# Altium footprint library SOARFootprints.PcbLib: 56 footprints (part 2 of 4)
Each footprint in its own frame and in the unit in brackets; x right, y up, seen from the top. Pads: shape width x height; smd on the part's side, far side on the other; paste and mask are expansions set on the pad; w line width, h text height; cw(c..) or ccw(c..) is an arc to the next point about the centre after c.
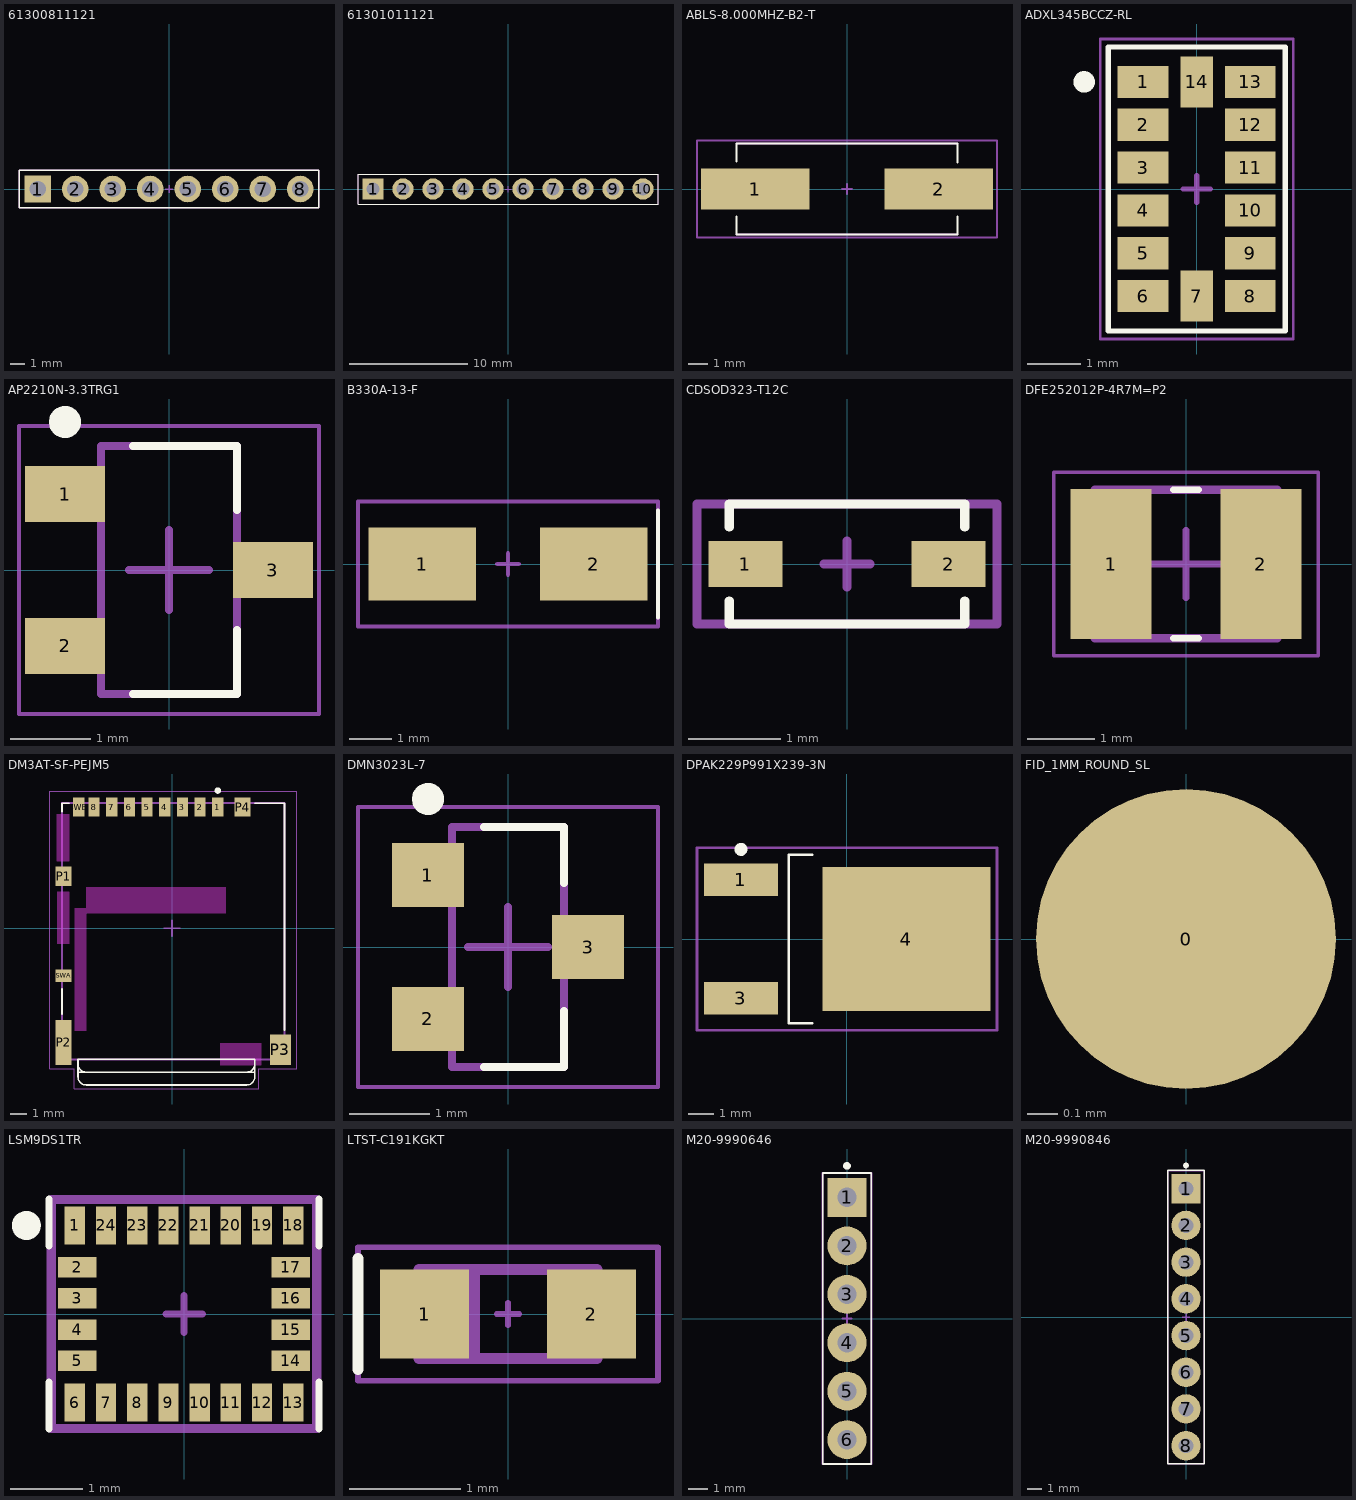
[diagram p1: the footprints below, top view; thin cyan lines are the x and y axes]

## 61300811121 [mm] "CONN HEADER VERT 8POS 2.54MM"
height 11.54
pads (8):
  rect 1.8x1.8 hole 1.1 mask+0.05: 1(-8.89,0)
  round 1.8 hole 1.1 mask+0.05: 2(-6.35,0) 3(-3.81,0) 4(-1.27,0) 5(1.27,0) 6(3.81,0) 7(6.35,0) 8(8.89,0)
Top Overlay:
  lines w0.1: -10.16,-1.27 -10.16,1.27 10.16,1.27 10.16,-1.27 -10.16,-1.27
Top Component Outline:
  lines w0.1: -0.254,0 0.254,0 ; 0,-0.254 0,0.254 ; -10.16,-1.27 -10.16,1.27 10.16,1.27 10.16,-1.27 -10.16,-1.27
3D body "61300811121_Download_STP_61300811121_rev1.stp": height 8.57, standoff -2.97, extent -10.16,-1.27 10.16,1.27

## 61301011121 [mm] "CONN HEADER VERT 10POS 2.54MM"
height 11.54
pads (10):
  rect 1.8x1.8 hole 1.1 mask+0.05: 1(-11.43,0)
  round 1.8 hole 1.1 mask+0.05: 2(-8.89,0) 3(-6.35,0) 4(-3.81,0) 5(-1.27,0) 6(1.27,0) 7(3.81,0) 8(6.35,0) 9(8.89,0) 10(11.43,0)
Top Overlay:
  lines w0.1: -12.7,-1.27 -12.7,1.27 12.7,1.27 12.7,-1.27 -12.7,-1.27
Top Component Outline:
  lines w0.1: -0.254,0 0.254,0 ; 0,-0.254 0,0.254 ; -12.7,-1.27 -12.7,1.27 12.7,1.27 12.7,-1.27 -12.7,-1.27
3D body "61301011121_Download_STP_61301011121_rev1.stp": height 8.57, standoff -2.97, extent -12.7,-1.27 12.7,1.27

## ABLS-8.000MHZ-B2-T [mm] "CRYSTAL 8.0000MHZ 18PF SMD"
pads (2):
  rect 5.6x2.1 smd: 1(-4.75,0) 2(4.75,0)
Top Overlay:
  lines w0.1: -5.7,-1.42 -5.7,-2.35 5.7,-2.35 5.7,-1.42 ; -5.7,1.42 -5.7,2.35 5.7,2.35 5.7,1.37
  lines w0.127: -5.7,-2.35 5.7,-2.35 ; -5.7,2.35 5.7,2.35
Top Component Outline:
  lines w0.1: -0.25,0 0.25,0 ; 0,-0.25 0,0.25 ; -7.75,-2.5 -7.75,2.5 7.75,2.5 7.75,-2.5 -7.75,-2.5
Bottom Component Outline:
  lines w0.127: -5.7,-2.35 5.7,-2.35 ; -5.7,2.35 5.7,2.35
3D body "ABLS.STEP": height 4.08, standoff -0.09, extent -6.35,-2.349 6.35,2.35

## ADXL345BCCZ-RL [mm]
pads (14):
  rect 0.95x0.6 smd mask+0.05: 1(-1,2) 2(-1,1.2) 3(-1,0.4) 4(-1,-0.4) 5(-1,-1.2) 6(-1,-2) 8(1,-2) 9(1,-1.2) 10(1,-0.4) 11(1,0.4) 12(1,1.2) 13(1,2)
  rect 0.6x0.95 smd mask+0.05: 7(0,-2) 14(0,2)
Top Overlay:
  circle w0.2: c-2.1,2 r0.1
  lines w0.1: -1.65,-2.65 1.65,-2.65 1.65,2.65 -1.65,2.65 -1.65,-2.65
Top Component Outline:
  lines w0.05: -1.8,-2.8 -1.8,2.8 1.8,2.8 1.8,-2.8 -1.8,-2.8
  lines w0.1: -0.25,0 0.25,0 ; 0,-0.25 0,0.25
3D body: height 1, standoff 0, extent -1.5,-2.5 1.5,2.5

## AP2210N-3.3TRG1 [mm] "IC REG LINEAR 3.3V 300MA SOT23-3"
height 1.45
pads (3):
  rect 1x0.7 smd: 1(-1.3,0.95) 2(-1.3,-0.95) 3(1.3,0)
Top Overlay:
  circle w0.2: c-1.3,1.85 r0.1
  lines w0.1: -0.45,-1.55 0.85,-1.55 0.85,-0.75 ; -0.45,1.55 0.85,1.55 0.85,0.75
Top Component Outline:
  lines w0.05: -1.875,-1.8 1.875,-1.8 1.875,1.8 -1.875,1.8 -1.875,-1.8
  lines w0.1: -0.5,0 0.5,0 ; 0,-0.5 0,0.5 ; -0.85,-1.55 -0.85,1.55 0.85,1.55 0.85,-1.55 -0.85,-1.55
3D body "AP2210N-3.3TRG1.step": height 1.45, standoff 0, extent -1.25,-1.55 1.25,1.55

## B330A-13-F [mm] "DIODE SCHOTTKY 30V 3A SMA"
pads (2):
  rect 2.5x1.7 smd mask+0.05: 1(-2,0) 2(2,0)
Top Overlay:
  lines w0.1: 3.5,-1.25 3.5,1.25
Top Component Outline:
  lines w0.1: -0.25,0 0.25,0 ; 0,-0.25 0,0.25 ; -3.5,-1.46 -3.5,1.46 3.5,1.46 3.5,-1.46 -3.5,-1.46
3D body: height 2.4, standoff 0, extent -2.75,-1.46 2.75,1.46
3D body: height 2.5, standoff 2.4, extent 2,-1.46 2.25,1.46

## CDSOD323-T12C [mm] "TVS DIODE 12V 28.3V SOD323"
height 1.14
pads (2):
  rect 0.8x0.5 smd mask+0.05: 1(-1.1,0) 2(1.1,0)
Top Overlay:
  lines w0.1: -1.275,-0.4 -1.275,-0.65 1.275,-0.65 1.275,-0.4 ; -1.275,0.4 -1.275,0.65 1.275,0.65 1.275,0.4
Top Component Outline:
  lines w0.1: -0.25,0 0.25,0 ; 0,-0.25 0,0.25 ; -1.625,-0.65 -1.625,0.65 1.625,0.65 1.625,-0.65 -1.625,-0.65
3D body "cdsod323-t12C.stp": height 1, standoff -0.01, extent -1.273,-0.65 1.273,0.65

## DFE252012P-4R7M=P2 [mm] "FIXED IND 4.7UH 2A 200 MOHM SMD"
pads (2):
  rect 1.2x2.22 smd: 1(-1.11,0) 2(1.11,0)
Top Overlay:
  lines w0.1: -0.19,-1.1 0.19,-1.1 ; -0.19,1.1 0.19,1.1
Top Component Outline:
  lines w0.05: -1.958,-1.358 -1.958,1.358 1.958,1.358 1.958,-1.358 -1.958,-1.358
  lines w0.1: -0.5,0 0.5,0 ; 0,-0.5 0,0.5
  lines w0.127: -1.35,-1.1 -1.35,1.1 ; -1.35,-1.1 1.35,-1.1 ; -1.35,-1.1 -1.35,1.1 ; -1.35,-1.1 1.35,-1.1 ; -1.35,1.1 1.35,1.1 ; -1.35,1.1 1.35,1.1 ; 1.35,-1.1 1.35,1.1 ; 1.35,-1.1 1.35,1.1
3D body: height 1.2, standoff 0, extent -1.25,-1 1.25,1

## DM3AT-SF-PEJM5 [mm]
pads (14):
  rect 0.7x1.2 smd: 1(2.85,7.55) 2(1.75,7.55) 3(0.65,7.55) 4(-0.45,7.55) 5(-1.55,7.55) 6(-2.65,7.55) 7(-3.75,7.55) 8(-4.85,7.55) SWB(-5.8,7.55)
  rect 1x1.2 smd: P1(-6.75,3.25) P4(4.4,7.55)
  rect 1x2.8 smd: P2(-6.75,-7.1)
  rect 1.3x1.9 smd: P3(6.75,-7.55)
  rect 1x0.8 smd: SWA(-6.75,-2.95)
Top Overlay:
  circle w0.2: c2.85,8.575 r0.1
  lines w0.1: -6.85,-5.35 -6.85,-3.75 ; -6.85,7.25 -6.85,7.8 -6.4,7.8 ; 5.15,7.8 7,7.8 7,-6.35 ; -5.85,-8.95 -5.85,-9.25 ccw(c-5.35,-9.25) -5.35,-9.75 4.65,-9.75 ccw(c4.65,-9.25) 5.15,-9.25 5.15,-8.95 ; -5.85,-8.95 -5.85,-8.45 ; -5.85,-8.95 -5.35,-8.95 ; -5.85,-8.45 ccw(c-5.35,-8.45) -5.35,-8.95 ; -5.85,-8.45 -5.85,-8.15 5.15,-8.15 5.15,-8.45 ; -5.35,-8.95 4.65,-8.95 ; 4.65,-8.95 ccw(c4.65,-8.45) 5.15,-8.45 ; 4.65,-8.95 5.15,-8.95 ; 5.15,-8.95 5.15,-8.45
Keep-Out Layer:
  region: 3.002,-7.15 5.55,-7.15 5.55,-8.507 3.002,-8.507
  region: -5.353,2.55 3.35,2.55 3.35,0.946 -5.353,0.946
  region: -6.056,1.25 -5.35,1.25 -5.35,-6.365 -6.056,-6.365
  region: -7.154,2.286 -6.4,2.286 -6.4,-0.955 -7.154,-0.955
  region: -7.163,7.1 -6.4,7.1 -6.4,4.191 -7.163,4.191
Top Component Outline:
  lines w0.05: -7.6,-8.75 -6.1,-8.75 -6.1,-10 5.4,-10 5.4,-8.75 7.775,-8.75 7.775,8.55 -7.6,8.55 -7.6,-8.75
  lines w0.1: -0.5,0 0.5,0 ; 0,-0.5 0,0.5
  lines w0.127: -6.85,-8.15 -6.85,7.8 7,7.8 7,-8.15 -6.85,-8.15
3D body "DM3AT-SF-PEJM5.stp": height 1.68, standoff 0, extent -6.775,-8.6 7.075,7.55

## DMN3023L-7 [mm] "MOSFET N-CH 30V 6.2A SOT23"
height 1.1
pads (3):
  rect 0.9x0.8 smd: 1(-1,0.9) 2(-1,-0.9) 3(1,0)
Top Overlay:
  circle w0.2: c-1,1.85 r0.1
  lines w0.1: -0.3,-1.5 0.7,-1.5 0.7,-0.8 ; -0.3,1.5 0.7,1.5 0.7,0.8
Top Component Outline:
  lines w0.05: -1.875,-1.75 -1.875,1.75 1.875,1.75 1.875,-1.75 -1.875,-1.75
  lines w0.1: -0.5,0 0.5,0 ; 0,-0.5 0,0.5 ; -0.7,-1.5 0.7,-1.5 0.7,1.5 -0.7,1.5 -0.7,-1.5
3D body "DMN3023L-7.step": height 1.1, standoff 0, extent -1.25,-1.5 1.25,1.5

## DPAK229P991X239-3N [mm] "D-PAK, 3-Pads, Body 6.15x6.63mm (max), IPC Medium Density"
height 2.39
pads (3):
  rect 2.85x1.25 smd: 1(-4.1,2.29) 3(-4.1,-2.29)
  rect 6.5x5.55 smd: 4(2.3,0)
Top Overlay:
  circle w0.25: c-4.1,3.465 r0.125
  lines w0.1: -1.35,-3.25 -2.25,-3.25 -2.25,3.25 -1.35,3.25
Top Component Outline:
  lines w0.1: -0.5,0 0.5,0 ; 0,-0.5 0,0.5 ; -5.8,-3.525 -5.8,3.525 5.8,3.525 5.8,-3.525 -5.8,-3.525
3D body "DPAK229P991X239-3N.step": height 2.49, standoff 0, extent -4.265,-3.275 5.64,3.275

## FID_1MM_ROUND_SL [mm] "Fiducial 1MM Round Single Layer"
pads (1):
  round 1 smd mask+1: 0(0,0)

## LSM9DS1TR [mm]
pads (24):
  rect 0.28x0.53 smd mask+0.05: 1(-1.505,1.22) 6(-1.505,-1.22) 7(-1.075,-1.22) 8(-0.645,-1.22) 9(-0.215,-1.22) 10(0.215,-1.22) 11(0.645,-1.22) 12(1.075,-1.22) 13(1.505,-1.22) 18(1.505,1.22) 19(1.075,1.22) 20(0.645,1.22) 21(0.215,1.22) 22(-0.215,1.22) 23(-0.645,1.22) 24(-1.075,1.22)
  rect 0.53x0.28 smd mask+0.05: 2(-1.47,0.645) 3(-1.47,0.215) 4(-1.47,-0.215) 5(-1.47,-0.645) 15(1.47,-0.215) 16(1.47,0.215) 17(1.47,0.645)
  rect 0.53x0.28 smd paste+0 mask+0.05: 14(1.47,-0.645)
Top Overlay:
  circle w0.2: c-2.175,1.22 r0.1
  lines w0.1: -1.86,-1.58 -1.86,-0.94 ; -1.86,0.94 -1.86,1.58 ; 1.86,-1.58 1.86,-0.94 ; 1.86,0.94 1.86,1.58
Top Component Outline:
  lines w0.1: -0.25,0 0.25,0 ; 0,-0.25 0,0.25
  lines w0.127: -1.83,-1.58 1.83,-1.58 1.83,1.58 -1.83,1.58 -1.83,-1.58
3D body "LGA16C100P2X2_300X350X103.step": height 1.03, standoff 0, extent -1.825,-1.575 1.825,1.575

## LTST-C191KGKT [mm] "Green 571nm LED Indication - Discrete 2V 0603"
height 0.65
pads (2):
  rect 0.8x0.8 smd paste-3 mask+0.05: 1(-0.75,0) 2(0.75,0)
Top Overlay:
  lines w0.1: -1.35,-0.5 -1.35,0.5
Top Component Outline:
  rectangle: -0.8,-0.4 -0.25,0.4
  lines w0.05: -0.1,0 0.1,0 ; 0,-0.1 0,0.1 ; -1.35,-0.6 1.35,-0.6 1.35,0.6 -1.35,0.6 -1.35,-0.6
  lines w0.1: -0.8,-0.4 0.8,-0.4 0.8,0.4 -0.8,0.4 -0.8,-0.4
3D body "LTST-C190KRKT--3DModel-STEP-56544.STEP": height 0.8, standoff 0, extent -0.8,-0.4 0.8,0.4

## M20-9990646 [mm]
pads (6):
  rect 2.04x2.04 hole 1.02: 1(0,6.35)
  round 2.04 hole 1.02: 2(0,3.81) 3(0,1.27) 4(0,-1.27) 5(0,-3.81) 6(0,-6.35)
Top Overlay:
  circle w0.2: c0,8 r0.1
  lines w0.1: -1.27,-7.62 1.27,-7.62 1.27,0 1.27,7.62 -1.27,7.62 -1.27,-7.62
Top Component Outline:
  lines w0.1: -0.25,0 0.25,0 ; 0,-0.25 0,0.25 ; -1.275,-7.625 1.275,-7.625 1.275,7.625 -1.275,7.625 -1.275,-7.625
3D body: height 0.25, standoff -11.5, extent 0,0 0,0
3D body: height 0.25, standoff -11.5, extent 0.9,-11.4 0.9,-11.4
3D body: height 8.6, standoff 0, extent -1.27,-7.62 1.27,7.62

## M20-9990846 [mm]
pads (8):
  rect 2.04x2.04 hole 1.02: 1(0,8.89)
  round 2.04 hole 1.02: 2(0,6.35) 3(0,3.81) 4(0,1.27) 5(0,-1.27) 6(0,-3.81) 7(0,-6.35) 8(0,-8.89)
Top Overlay:
  circle w0.2: c0,10.5 r0.1
  lines w0.1: -1.27,-10.16 1.27,-10.16 1.27,2.54 1.27,10.16 -1.27,10.16 -1.27,-10.16
Top Component Outline:
  lines w0.1: -0.25,0 0.25,0 ; 0,-0.25 0,0.25 ; -1.275,-10.15 -1.275,10.15 1.275,10.15 1.275,-10.15 -1.275,-10.15
3D body: height 8.6, standoff 0, extent -1.27,-10.16 1.27,10.16